# Altium footprint library CP-102AH-ND.PcbLib: 1 footprints
Each footprint in its own frame and in the unit in brackets; x right, y up, seen from the top. Pads: shape width x height; smd on the part's side, far side on the other; paste and mask are expansions set on the pad; w line width, h text height; cw(c..) or ccw(c..) is an arc to the next point about the centre after c.
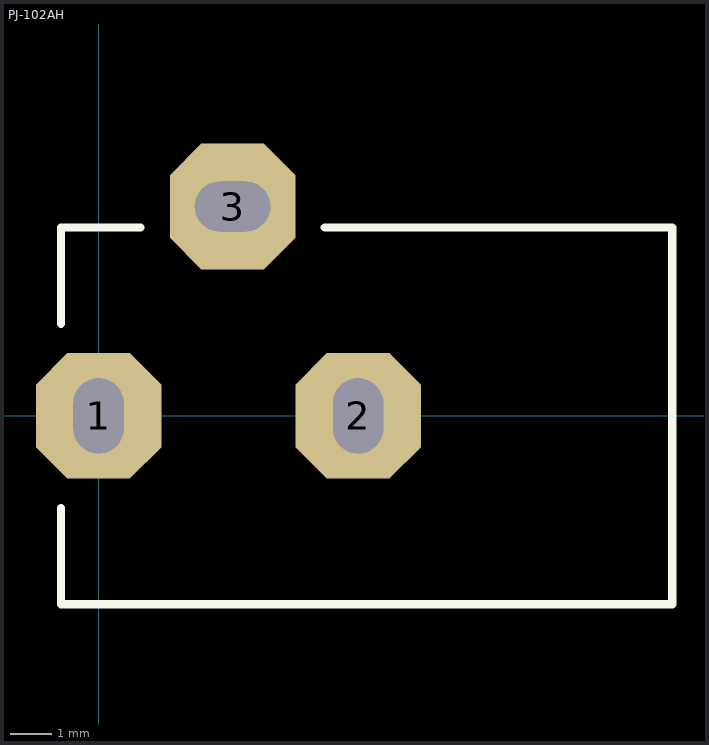
[diagram p0: the footprint, top view; thin cyan lines are the x and y axes]

## PJ-102AH [mm]
pads (3):
  oct 3x3 hole 1.2 slot 1.8 at 90 deg: 1(0,0) 2(6.2,0)
  oct 3x3 hole 1.2 slot 1.8 at 0 deg: 3(3.2,5)
Top Overlay:
  lines w0.2: -0.9,-2.2 -0.9,-4.5 13.7,-4.5 13.7,4.5 5.4,4.5 ; -0.9,2.2 -0.9,4.5 1,4.5
3D body: height 11.02, standoff -3.48, extent -0.611,-4.49 13.789,4.91